# EAGLE library part UVB_MODULE (library Zenith_Breakouts)
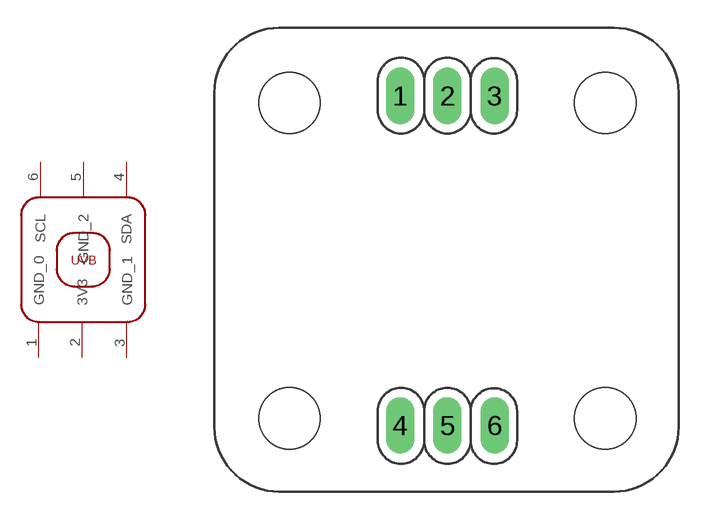
[diagram p2: symbol with the pads of UVB_MODULE; footprint UVB_MODULE]

Designator prefix -

## UVB_MODULE  [UVB_MODULE]
1  GND_0
2  3V3
3  GND_1
4  SDA
5  GND_2
6  SCL

## Footprint UVB_MODULE (pad centres in mm)
drill 1.016 long: 1 10.01,-3.67; 2 12.55,-3.67; 3 15.09,-3.67; 4 10.01,-21.43; 5 12.55,-21.43; 6 15.09,-21.43